# Altium footprint library Library v1.9.PcbLib: 90 footprints (part 5 of 6)
Each footprint in its own frame and in the unit in brackets; x right, y up, seen from the top. Pads: shape width x height; smd on the part's side, far side on the other; paste and mask are expansions set on the pad; w line width, h text height; cw(c..) or ccw(c..) is an arc to the next point about the centre after c.
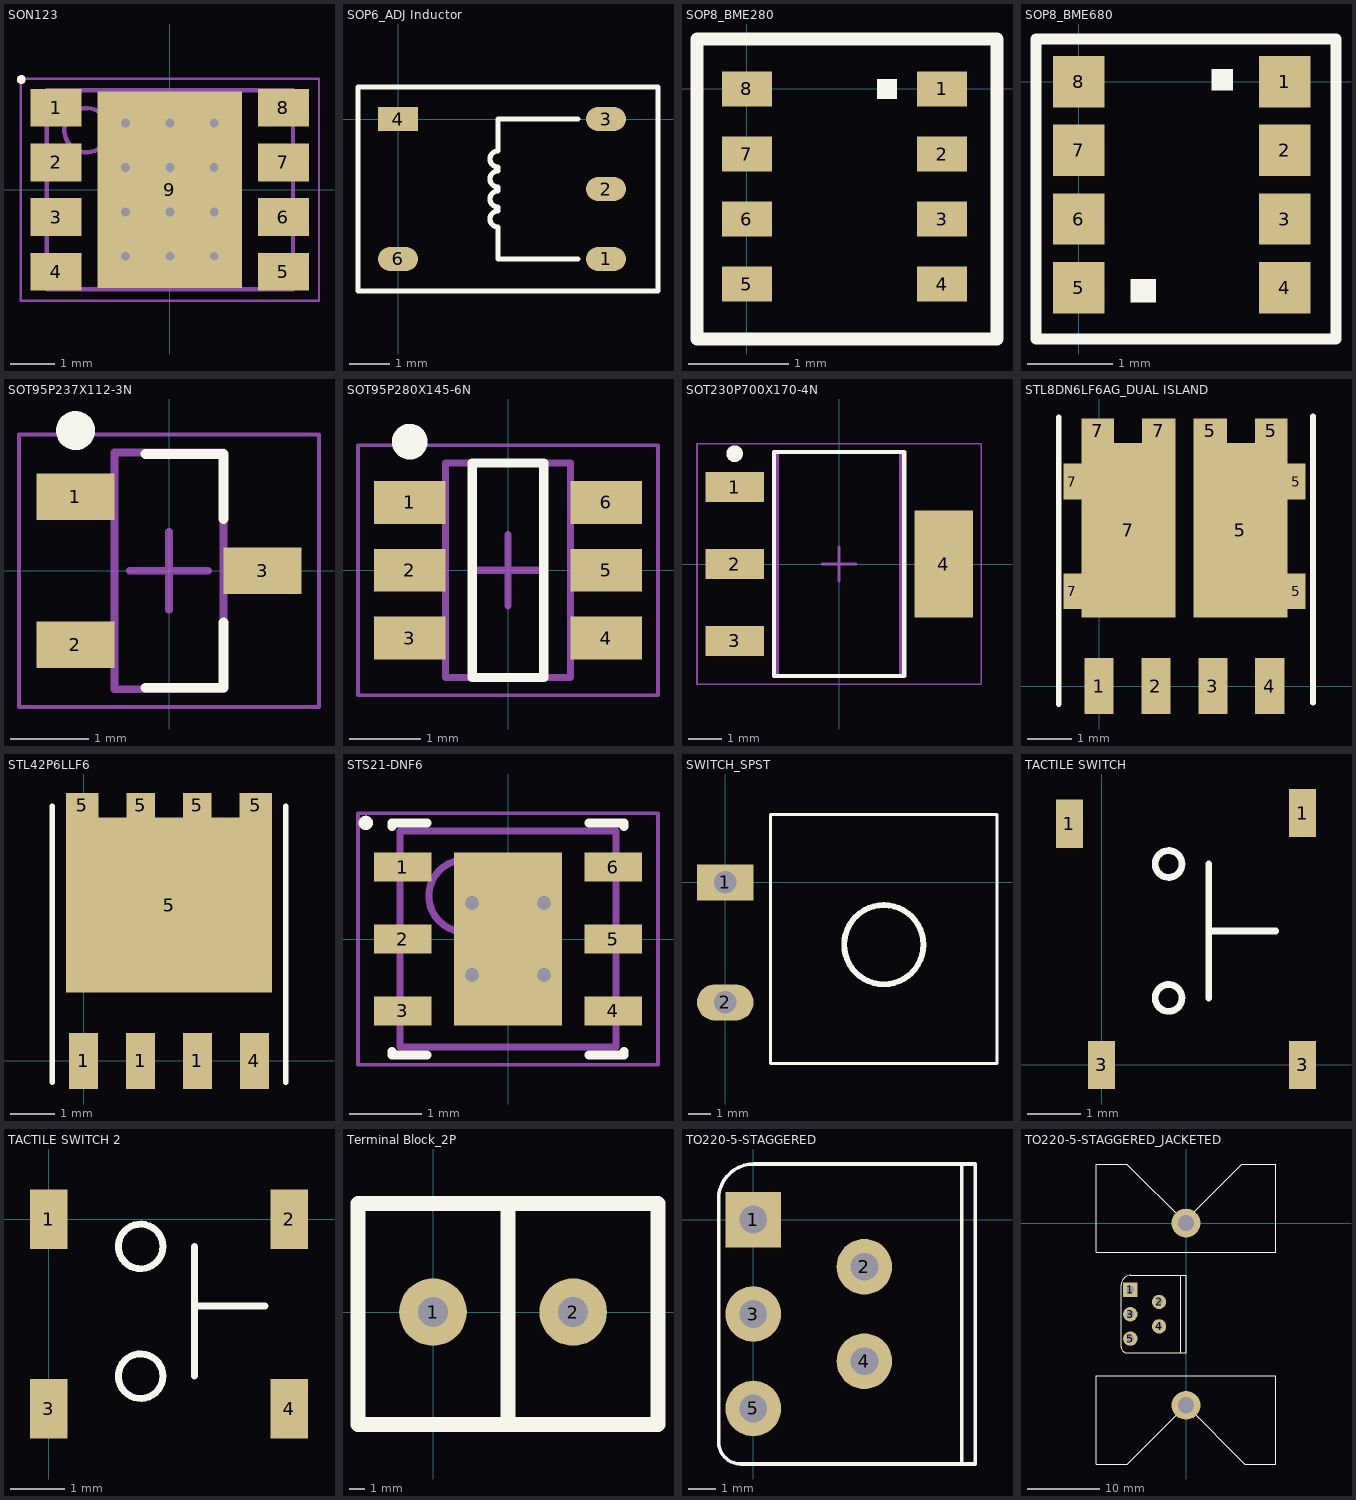
[diagram p4: the footprints below, top view; thin cyan lines are the x and y axes]

## SON123 [mm] "SON, 8-Leads, Body 4.48x5.55mm, Pitch 1.23mm, Thermal Pad 4.43x3.25mm, IPC Medium Density"
height 0.38
pads (9):
  rect 1.15x0.85 smd: 1(-2.56,1.845) 2(-2.56,0.615) 3(-2.56,-0.615) 4(-2.56,-1.845) 5(2.56,-1.845) 6(2.56,-0.615) 7(2.56,0.615) 8(2.56,1.845)
  rect 3.25x4.43 smd paste-1.625: 9(0,0)
via 1,-1.5 diameter 0.5 hole 0.2
via 0,-1.5 diameter 0.5 hole 0.2
via -1,-1.5 diameter 0.5 hole 0.2
via 1,-0.5 diameter 0.5 hole 0.2
via 0,-0.5 diameter 0.5 hole 0.2
via -1,-0.5 diameter 0.5 hole 0.2
via 1,0.5 diameter 0.5 hole 0.2
via 0,0.5 diameter 0.5 hole 0.2
via -1,0.5 diameter 0.5 hole 0.2
via 1,1.5 diameter 0.5 hole 0.2
via 0,1.5 diameter 0.5 hole 0.2
via -1,1.5 diameter 0.5 hole 0.2
Top Overlay:
  circle w0.1: c-3.347,2.482 r0.05
Top Paste:
  rectangle: 0.64,-2.12 1.52,-0.84
  rectangle: 0.64,-0.64 1.52,0.64
  rectangle: 0.64,0.84 1.52,2.12
  rectangle: -0.44,-2.12 0.44,-0.84
  rectangle: -0.44,-0.64 0.44,0.64
  rectangle: -0.44,0.84 0.44,2.12
  rectangle: -1.52,-2.12 -0.64,-0.84
  rectangle: -1.52,-0.64 -0.64,0.64
  rectangle: -1.52,0.84 -0.64,2.12
Mechanical 13:
  circle w0.1: c-1.875,1.34 r0.5
  lines w0.1: -2.775,-2.24 2.775,-2.24 2.775,2.24 -2.775,2.24 -2.775,-2.24
Mechanical 15:
  lines w0.05: -3.36,-2.5 3.36,-2.5 3.36,2.5 -3.36,2.5 -3.36,-2.5
  lines w0.1: -0.5,0 0.5,0 ; 0,-0.5 0,0.5
3D body "SON123.step": height 1, standoff 0, extent -3.775,-2.28 3.775,2.28

## SOP6_ADJ Inductor [mm]
pads (5):
  oval 1x0.6 smd: 1(5.2,-3.5) 2(5.2,-1.75) 3(5.2,0) 6(0,-3.5)
  rect 1x0.6 smd: 4(0,0)
Top Overlay:
  lines w0.127: 4.5,-3.5 2.5,-3.5 2.5,-2.7 cw(c2.5,-2.5) 2.5,-2.3 2.5,-2.2 cw(c2.5,-2) 2.5,-1.8 2.5,-1.7 cw(c2.5,-1.5) 2.5,-1.3 2.5,-1.2 cw(c2.5,-1) 2.5,-0.8 2.5,-0.5 2.5,0 4.5,0 ; -1,-4.3 -1,0.8 6.5,0.8 6.5,-4.3 -1,-4.3

## SOP8_BME280 [mm]
pads (8):
  rect 0.5x0.35 smd: 1(1.95,0) 2(1.95,-0.65) 3(1.95,-1.3) 4(1.95,-1.95) 5(0,-1.95) 6(0,-1.3) 7(0,-0.65) 8(0,0)
Top Overlay:
  rectangle: 1.3,-0.1 1.5,0.1
  lines w0.127: -0.5,-2.5 2.5,-2.5 2.5,0.5 -0.5,0.5 -0.5,-2.5

## SOP8_BME680 [mm]
pads (8):
  rect 0.6x0.6 smd: 1(2.4,0) 2(2.4,-0.8) 3(2.4,-1.6) 4(2.4,-2.4) 5(0,-2.4) 6(0,-1.6) 7(0,-0.8) 8(0,0)
Top Overlay:
  rectangle: 0.6,-2.575 0.9,-2.3
  rectangle: 1.55,-0.1 1.8,0.15
  lines w0.127: -0.5,-3 3,-3 3,0.5 -0.5,0.5 -0.5,-3

## SOT95P237X112-3N [mm] "SOT23, 3-Leads, Body 2.92x2.37mm, Pitch 0.95mm, IPC Medium Density"
height 1.12
pads (3):
  rect 1x0.6 smd: 1(-1.2,0.95) 2(-1.2,-0.95) 3(1.2,0)
Top Overlay:
  circle w0.25: c-1.2,1.8 r0.125
  lines w0.127: -0.3,-1.5 0.7,-1.5 0.7,-0.663 ; -0.3,1.5 0.7,1.5 0.7,0.664
Mechanical 13:
  lines w0.1: -0.7,-1.52 -0.7,1.52 0.7,1.52 0.7,-1.52 -0.7,-1.52
Mechanical 15:
  lines w0.05: -1.925,-1.75 -1.925,1.75 1.925,1.75 1.925,-1.75 -1.925,-1.75
  lines w0.1: -0.5,0 0.5,0 ; 0,-0.5 0,0.5
3D body "SOT95P237X112-3N.step": height 1.12, standoff 0, extent -1.32,-1.52 1.32,1.52

## SOT95P280X145-6N [mm] "SOT23, 6-Leads, Body 2.90x2.80mm, Pitch 0.95mm, IPC Medium Density"
height 1.45
pads (6):
  rect 1x0.6 smd: 1(-1.375,0.95) 2(-1.375,0) 3(-1.375,-0.95) 4(1.375,-0.95) 5(1.375,0) 6(1.375,0.95)
Top Overlay:
  circle w0.25: c-1.375,1.8 r0.125
  lines w0.127: -0.5,-1.5 0.5,-1.5 0.5,1.5 -0.5,1.5 -0.5,-1.5
Mechanical 13:
  lines w0.1: -0.875,-1.5 -0.875,1.5 0.875,1.5 0.875,-1.5 -0.875,-1.5
Mechanical 15:
  lines w0.05: -2.1,-1.75 -2.1,1.75 2.1,1.75 2.1,-1.75 -2.1,-1.75
  lines w0.1: -0.5,0 0.5,0 ; 0,-0.5 0,0.5
3D body "SOT95P280X145-6N.step": height 1.45, standoff 0, extent -1.5,-1.5 1.5,1.5

## SOT230P700X170-4N [mm] "SOT223, 4-Leads, Body 6.50x7.00mm (avg), Pitch 2.30mm, IPC Medium Density"
height 1.7
pads (4):
  rect 1.75x0.9 smd: 1(-3.125,2.3) 2(-3.125,0) 3(-3.125,-2.3)
  rect 1.75x3.2 smd: 4(3.125,0)
Top Overlay:
  circle w0.25: c-3.125,3.3 r0.125
  lines w0.127: -1.95,-3.35 1.95,-3.35 1.95,3.35 -1.95,3.35 -1.95,-3.35
Mechanical 13:
  lines w0.1: -1.85,-3.35 1.85,-3.35 1.85,3.35 -1.85,3.35 -1.85,-3.35
Mechanical 15:
  lines w0.05: -4.25,-3.6 4.25,-3.6 4.25,3.6 -4.25,3.6 -4.25,-3.6
  lines w0.1: -0.5,0 0.5,0 ; 0,-0.5 0,0.5
3D body "SOT230P700X170-4N.step": height 1.7, standoff 0, extent -3.5,-3.35 3.5,3.35

## STL8DN6LF6AG_DUAL ISLAND [mm]
pads (14):
  rect 0.65x1.25 smd: 1(0,0) 2(1.27,0) 3(2.54,0) 4(3.81,0)
  rect 0.75x0.55 smd: 5(2.48,5.7) 7(1.33,5.7)
  rect 2.1x3.9 smd: 5(3.155,3.475) 7(0.655,3.475)
  rect 0.725x0.55 smd: 5(3.842,5.7) 7(-0.032,5.7)
  rect 0.4x0.8 smd: 5(4.405,2.115) 5(4.405,4.565) 7(-0.595,2.115) 7(-0.595,4.565)
Top Layer:
  region: 5.175,3.875
  region: 2.15,2.325
  region: 1.7,3.95
Top Overlay:
  lines w0.127: -0.9,-0.4 -0.9,6 ; 4.775,-0.375 4.775,6.025

## STL42P6LLF6 [mm]
pads (9):
  rect 0.65x1.25 smd: 1(0,0) 1(1.27,0) 1(2.54,0) 4(3.81,0)
  rect 0.725x0.55 smd: 5(-0.032,5.7) 5(3.842,5.7)
  rect 0.637x0.55 smd: 5(1.274,5.7) 5(2.536,5.7)
  rect 4.6x3.9 smd: 5(1.905,3.475)
Top Overlay:
  lines w0.127: -0.695,-0.475 -0.695,5.675 ; 4.505,-0.475 4.505,5.675

## STS21-DNF6 [mm] "SON, 6-Leads, Body 3.00x3.00mm, Pitch 1.00mm, Thermal Pad 2.40x1.50mm, IPC Medium Density"
height 1.1
pads (7):
  rect 0.8x0.4 smd: 1(-1.46,1) 2(-1.46,0) 3(-1.46,-1) 4(1.46,-1) 5(1.46,0) 6(1.46,1)
  rect 1.5x2.4 smd: ""(0,0)
via 0.5,-0.5 diameter 0.5 hole 0.2
via -0.5,-0.5 diameter 0.5 hole 0.2
via 0.5,0.5 diameter 0.5 hole 0.2
via -0.5,0.5 diameter 0.5 hole 0.2
Top Overlay:
  circle w0.1: c-1.977,1.613 r0.05
  lines w0.127: -1.613,-1.563 -1.613,-1.613 -1.124,-1.613 ; -1.613,1.563 -1.613,1.613 -1.124,1.613 ; 1.124,-1.613 1.613,-1.613 1.613,-1.563 ; 1.124,1.613 1.613,1.613 1.613,1.563
Mechanical 13:
  circle w0.1: c-0.6,0.6 r0.5
  lines w0.1: -1.5,-1.5 1.5,-1.5 1.5,1.5 -1.5,1.5 -1.5,-1.5
Mechanical 15:
  lines w0.05: -2.085,-1.75 2.085,-1.75 2.085,1.75 -2.085,1.75 -2.085,-1.75
  lines w0.1: -0.5,0 0.5,0 ; 0,-0.5 0,0.5
3D body "STS21-DNF6.step": height 1.1, standoff 0, extent -1.501,-1.5 1.501,1.5

## SWITCH_SPST [mm]
pads (2):
  rect 2.5x1.6 hole 1: 1(0,0)
  oval 2.5x1.6 hole 1: 2(0,-5.3)
Top Overlay:
  circle w0.254: c7,-2.75 r1.75
  lines w0.127: 2,-8 12,-8 12,3 2,3 2,-8

## TACTILE SWITCH [mm]
height 0.55
pads (4):
  rect 0.5x0.9 smd: 1(-0.6,4.5) 1(3.75,4.7) 3(0,0) 3(3.75,0)
Top Overlay:
  circle w0.127: c1.25,3.75 r0.25
  circle w0.127: c1.25,1.25 r0.25
  lines w0.127: 2,1.25 2,3.75 ; 2,2.5 3.25,2.5
Mechanical 1:
  region: 1.1,1.1

## TACTILE SWITCH 2 [mm]
pads (4):
  rect 0.7x1.1 smd: 1(0,0) 2(4.45,0) 3(0,-3.5) 4(4.45,-3.5)
Top Overlay:
  circle w0.127: c1.7,-0.5 r0.412
  circle w0.127: c1.7,-2.9 r0.412
  lines w0.127: 2.7,-2.9 2.7,-1.7 2.7,-0.5 ; 2.7,-1.6 4,-1.6

## Terminal Block_2P [mm]
pads (2):
  round 4.5 hole 2: 1(0,0) 2(9.347,0)
Top Overlay:
  lines w1: 5,-7.5 5,7.25 ; -5,-7.5 15,-7.5 15,7.25 -5,7.25 -5,-7.5

## TO220-5-STAGGERED [mm]
pads (5):
  rect 2x2 hole 1: 1(0,0)
  round 2 hole 1: 2(4,-1.7) 3(0,-3.4) 4(4,-5.1) 5(0,-6.8)
Top Overlay:
  lines w0.127: 7.5,-8.8 7.5,2 ; -1.25,-8 ccw(c-0.45,-8) -0.45,-8.8 8,-8.8 8,2 0.02,2 ccw(c0.02,0.73) -1.25,0.73 -1.25,-8

## TO220-5-STAGGERED_JACKETED [mm]
pads (7):
  rect 2x2 hole 1: 1(-7.75,-9.285)
  round 2 hole 1: 2(-3.75,-10.985) 3(-7.75,-12.685) 4(-3.75,-14.385) 5(-7.75,-16.085)
  round 4 hole 2.25: ""(0,-25.37) ""(0,0)
Top Overlay:
  lines w0.127: -0.75,-18.085 -0.75,-7.285 ; 0,0 -8.215,8.215 -12.5,8.215 -12.5,-4.035 12.5,-4.035 12.5,8.215 7.785,8.215 0,0.43 ; -12.5,-33.535 -8.165,-33.535 0,-25.37 8.165,-33.535 12.5,-33.535 12.5,-21.285 -12.5,-21.285 -12.5,-33.535 ; -9,-17.285 ccw(c-8.2,-17.285) -8.2,-18.085 0,-18.085 0,-7.285 -7.73,-7.285 ccw(c-7.73,-8.555) -9,-8.555 -9,-17.285